# Altium footprint library L-7104.PcbLib: 1 footprints
Each footprint in its own frame and in the unit in brackets; x right, y up, seen from the top. Pads: shape width x height; smd on the part's side, far side on the other; paste and mask are expansions set on the pad; w line width, h text height; cw(c..) or ccw(c..) is an arc to the next point about the centre after c.
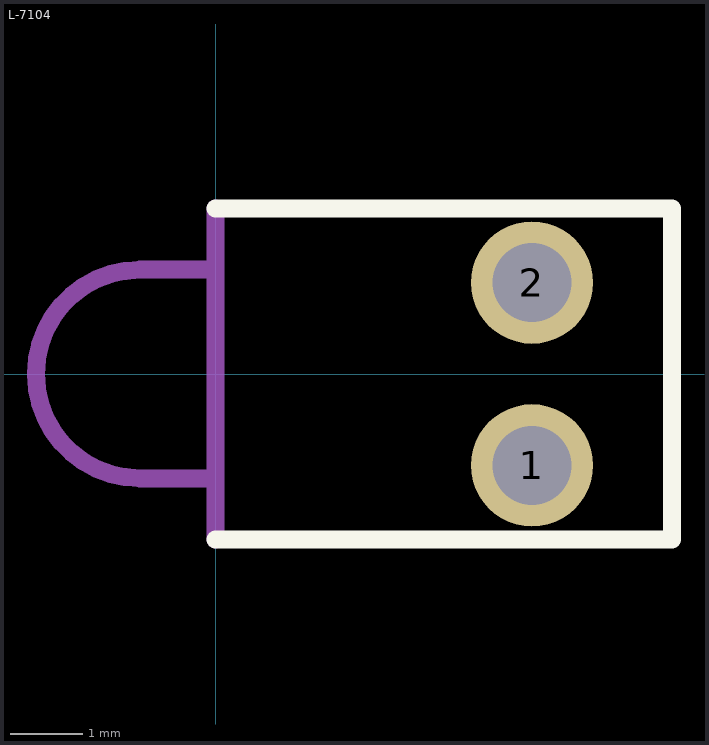
[diagram p0: the footprint, top view; thin cyan lines are the x and y axes]

## L-7104 [mm]
height 9.85
pads (2):
  round 1.7 hole 1.1: 1(4.4,-1.27) 2(4.4,1.27)
Top Overlay:
  lines w0.25: 0,-2.3 6.35,-2.3 6.35,2.3 0,2.3
Mechanical 2:
  lines w0.25: 0,-2.3 0,2.3 ; 0,-1.45 -1.05,-1.45 cw(c-1.05,0) -1.05,1.45 0,1.45